# Altium footprint library LEDs.PcbLib: 2 footprints
Each footprint in its own frame and in the unit in brackets; x right, y up, seen from the top. Pads: shape width x height; smd on the part's side, far side on the other; paste and mask are expansions set on the pad; w line width, h text height; cw(c..) or ccw(c..) is an arc to the next point about the centre after c.
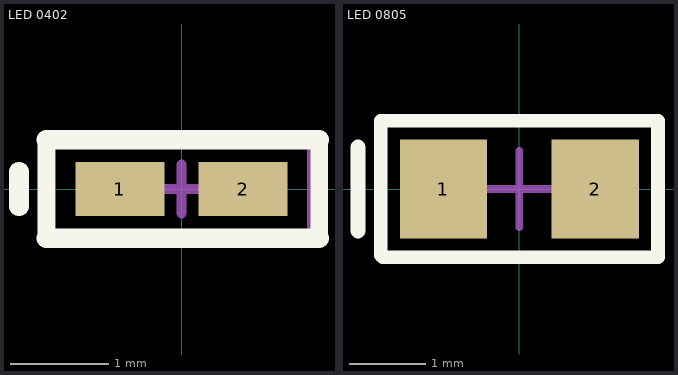
[diagram p0: the footprints below, top view; thin cyan lines are the x and y axes]

## LED 0402 [mm]
height 0.5
pads (2):
  rect 0.9x0.55 smd: 1(-0.625,0) 2(0.625,0)
Top Overlay:
  lines w0.178: -1.375,-0.5 -1.375,0.5 ; 1.397,-0.5 1.397,0.5
  lines w0.2: -1.651,-0.175 -1.651,0.175 ; -1.375,-0.5 1.397,-0.5 ; -1.375,0.5 1.397,0.5
Mechanical 15:
  lines w0.1: -0.25,0 0.25,0 ; 0,-0.25 0,0.25 ; -1.325,-0.5 1.325,-0.5 1.325,0.5 -1.325,0.5 -1.325,-0.5
3D body: height 0.15, standoff 0, extent -0.5,-0.25 0.5,0.25
3D body: height 0.5, standoff 0, extent -0.4,-0.225 0.4,0.225

## LED 0805 [mm]
height 0.8
pads (2):
  rect 1.15x1.3 smd: 1(-1,0) 2(1,0)
Top Overlay:
  lines w0.178: -1.825,-0.875 -1.8,-0.9 1.825,-0.9 1.825,0.9 -1.825,0.9 -1.825,-0.875
  lines w0.2: -2.125,-0.55 -2.125,0.55
Mechanical 15:
  lines w0.1: -0.5,0 0.5,0 ; 0,-0.5 0,0.5 ; -1.825,-0.9 1.825,-0.9 1.825,0.9 -1.825,0.9 -1.825,-0.9
3D body: height 0.3, standoff 0, extent -1,-0.625 1,0.625
3D body: height 0.8, standoff 0, extent -0.7,-0.575 0.675,0.575